# Altium integrated library PNP.IntLib: 3 symbols
Pins are listed as number, name and electrical type; pins without a type are passive.

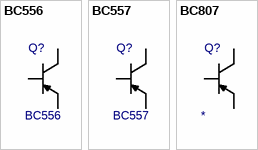
[diagram p0: symbols BC556 to BC807]

## BC556
designator Q?
PNP Vce=-65V, Ic=-100mA; Value: {Value}
footprint TO-92; pin to pad B>2 C>1 E>3
pins: B, C, E

## BC557
designator Q?
PNP Vce=-45V, Ic=-100mA; Value: {Value}
footprint TO-92; pin to pad B>2 C>1 E>3
pins: B, C, E

## BC807
designator Q?
PNP Vce=-50V, Ic=-300mA; Value: {Value}
footprint SOT23-3_L (Small Outline Transistor (SOT23), 0.96 mm pitch; 3 pin, 2.92 mm L X 1.30 mm W X 1.12 mm H body); pin to pad B>1 C>3 E>2
footprint SOT23-3_M (Small Outline Transistor (SOT23), 0.96 mm pitch; 3 pin, 2.92 mm L X 1.30 mm W X 1.12 mm H body); pin to pad B>1 C>3 E>2
footprint SOT23-3_N (Small Outline Transistor (SOT23), 0.96 mm pitch; 3 pin, 2.92 mm L X 1.30 mm W X 1.12 mm H body); pin to pad B>1 C>3 E>2
pins: B, C, E